# EAGLE library part LTC6946 (library Lynx components)
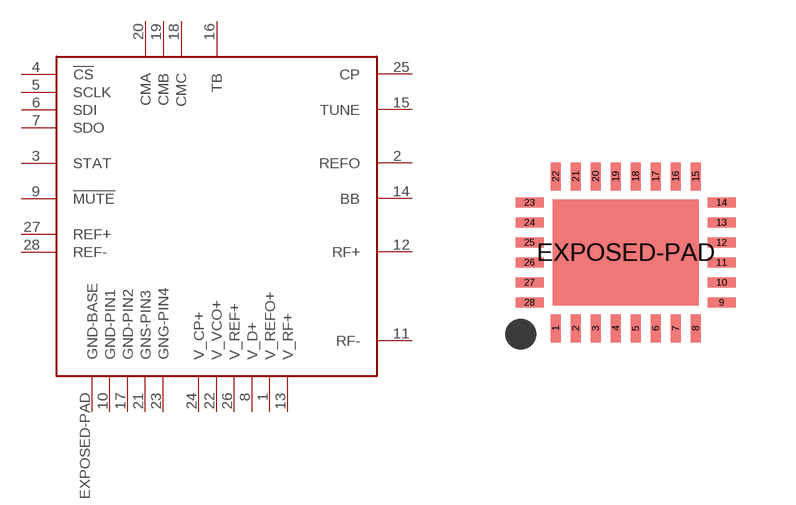
[diagram p2: symbol with the pads of QFN-28; footprint QFN-28]

Designator prefix -

## LTC6946  [QFN-28]
1  V_REFO+
2  REFO
3  STAT
4  !CS!
5  SCLK
6  SDI
7  SDO
8  V_D+
9  !MUTE!
10  GND-PIN1
11  RF-
12  RF+
13  V_RF+
14  BB
15  TUNE
16  TB
17  GND-PIN2
18  CMC
19  CMB
20  CMA
21  GNS-PIN3
22  V_VCO+
23  GNG-PIN4
24  V_CP+
25  CP
26  V_REF+
27  REF+
28  REF-
EXPOSED-PAD  GND-BASE

## Footprint QFN-28 (pad centres in mm)
smd 0.25 x 0.7: 1 -1.83,-1.9; 2 -1.33,-1.9; 3 -0.83,-1.9; 4 -0.33,-1.9; 5 0.17,-1.9; 6 0.67,-1.9; 7 1.17,-1.9; 8 1.67,-1.9; 15 1.67,1.9; 16 1.17,1.9; 17 0.67,1.9; 18 0.17,1.9; 19 -0.33,1.9; 20 -0.83,1.9; 21 -1.33,1.9; 22 -1.83,1.9
smd 0.7 x 0.25: 9 2.32,-1.25; 10 2.32,-0.75; 11 2.32,-0.25; 12 2.32,0.25; 13 2.32,0.75; 14 2.32,1.25; 23 -2.48,1.25; 24 -2.48,0.75; 25 -2.48,0.25; 26 -2.48,-0.25; 27 -2.48,-0.75; 28 -2.48,-1.25
smd 3.65 x 2.65: EXPOSED-PAD -0.07,0